# Altium schematic symbol library Schlib1.SchLib: 117 symbols (part 2 of 2)
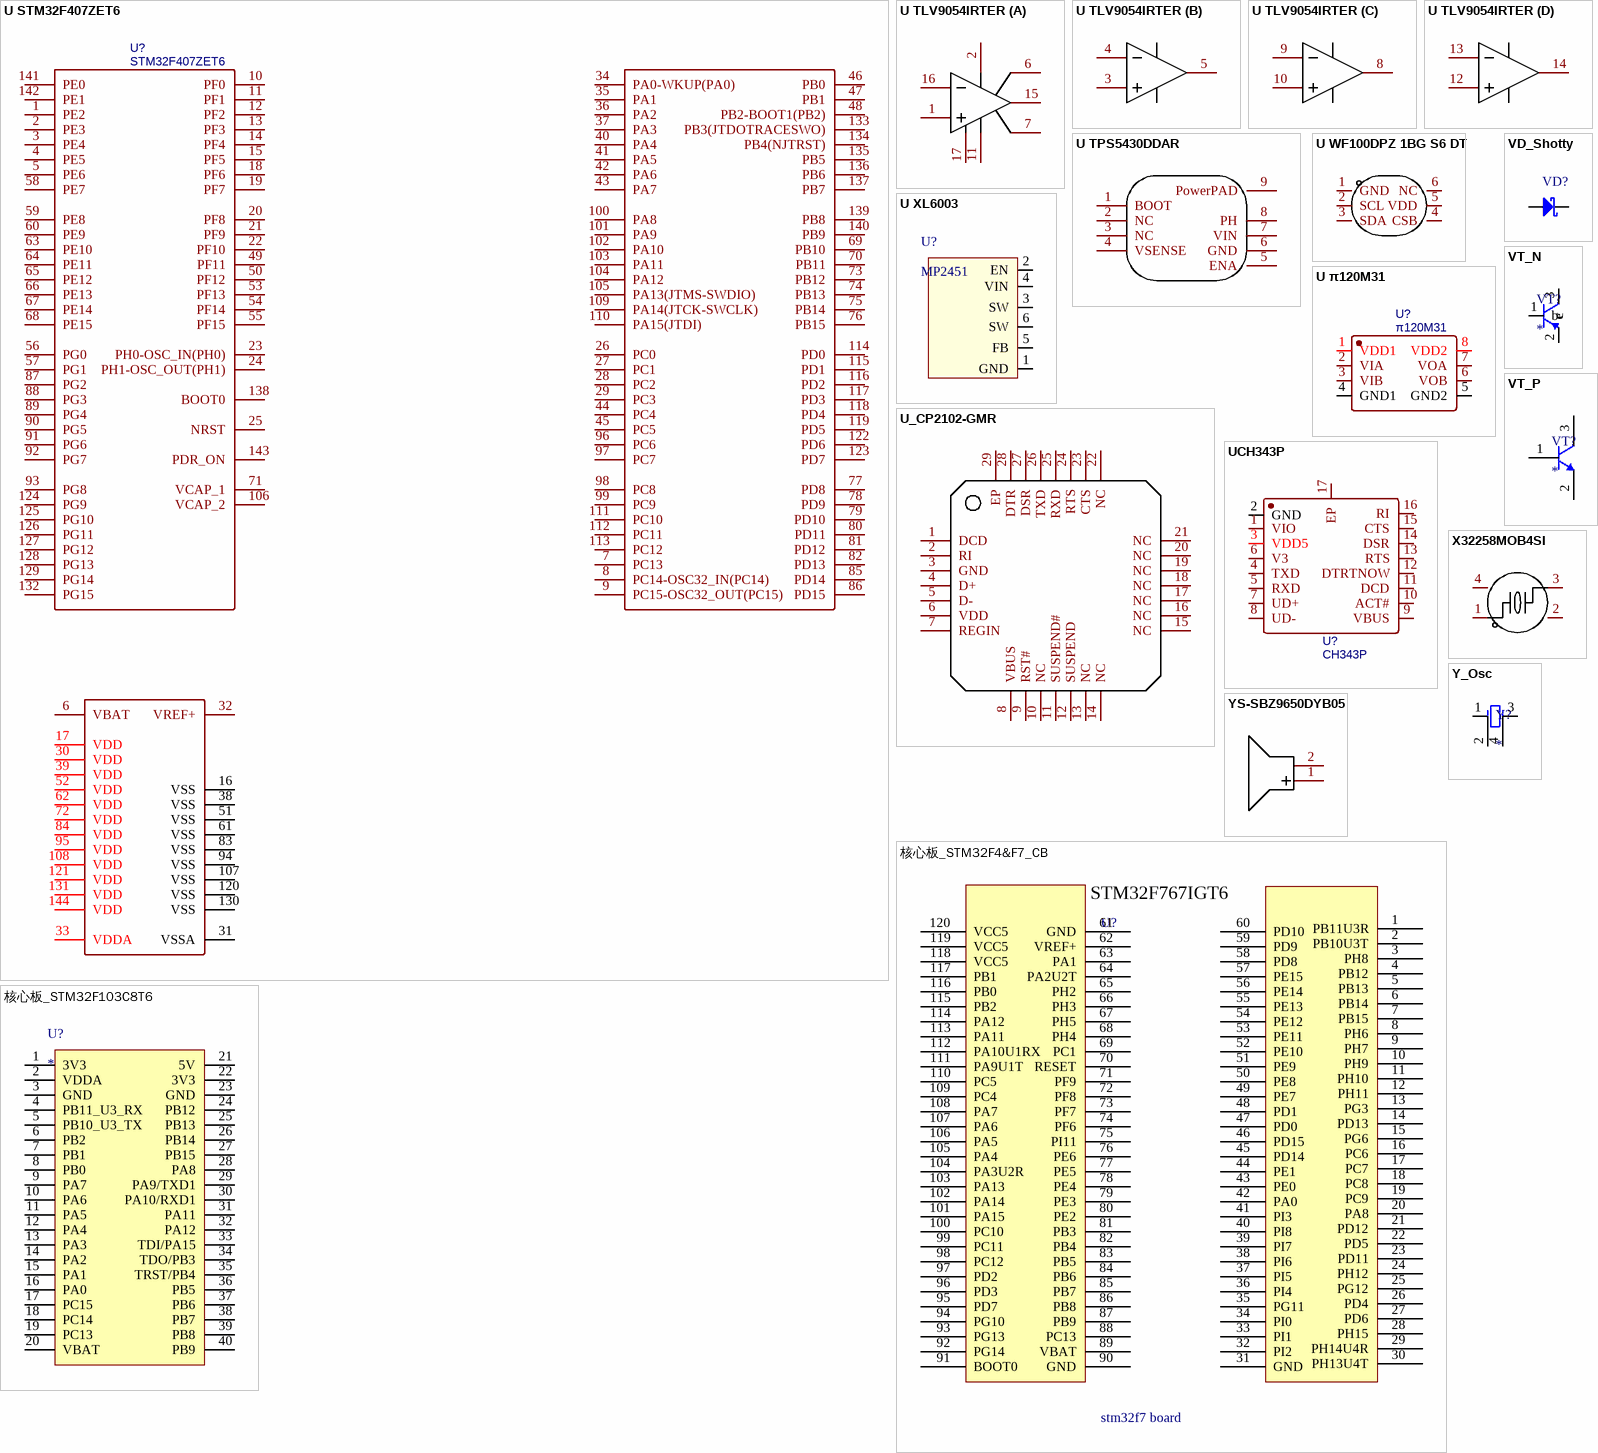
[diagram p5: symbols U STM32F407ZET6 to 核心板_STM32F103C8T6]

## 核心板_STM32F4&F7_CB
designator U?, comment stm32f7 board
footprint STM32F4&F7_CB
pins: 1 PB11U3R, 2 PB10U3T, 3 PH8, 4 PB12, 5 PB13, 6 PB14, 7 PB15, 8 PH6, 9 PH7, 10 PH9, 11 PH10, 12 PH11, 13 PG3, 14 PD13, 15 PG6, 16 PC6, 17 PC7, 18 PC8, 19 PC9, 20 PA8, 21 PD12, 22 PD5, 23 PD11, 24 PH12, 25 PG12, 26 PD4, 27 PD6, 28 PH15, 29 PH14U4R, 30 PH13U4T, 31 GND, 32 PI2, 33 PI1, 34 PI0, 35 PG11, 36 PI4, 37 PI5, 38 PI6, 39 PI7, 40 PI8, 41 PI3, 42 PA0, 43 PE0, 44 PE1, 45 PD14, 46 PD15, 47 PD0, 48 PD1, 49 PE7, 50 PE8, 51 PE9, 52 PE10, 53 PE11, 54 PE12, 55 PE13, 56 PE14, 57 PE15, 58 PD8, 59 PD9, 60 PD10, 61 GND, 62 VREF+, 63 PA1, 64 PA2U2T, 65 PH2, 66 PH3, 67 PH5, 68 PH4, 69 PC1, 70 RESET, 71 PF9, 72 PF8, 73 PF7, 74 PF6, 75 PI11, 76 PE6, 77 PE5, 78 PE4, 79 PE3, 80 PE2, 81 PB3, 82 PB4, 83 PB5, 84 PB6, 85 PB7, 86 PB8, 87 PB9, 88 PC13, 89 VBAT, 90 GND, 91 BOOT0, 92 PG14, 93 PG13, 94 PG10, 95 PD7, 96 PD3, 97 PD2, 98 PC12, 99 PC11, 100 PC10, 101 PA15, 102 PA14, 103 PA13, 104 PA3U2R, 105 PA4, 106 PA5, 107 PA6, 108 PA7, 109 PC4, 110 PC5, 111 PA9U1T, 112 PA10U1RX, 113 PA11, 114 PA12, 115 PB2, 116 PB0, 117 PB1, 118 VCC5, 119 VCC5, 120 VCC5
text: STM32F767IGT6

## 核心板_STM32F103C8T6
designator U?
telesky家的STM32F103C8T6
pins: 1 3V3, 2 VDDA, 3 GND, 4 PB11_U3_RX, 5 PB10_U3_TX, 6 PB2, 7 PB1, 8 PB0, 9 PA7, 10 PA6, 11 PA5, 12 PA4, 13 PA3, 14 PA2, 15 PA1, 16 PA0, 17 PC15, 18 PC14, 19 PC13, 20 VBAT, 21 5V, 22 3V3, 23 GND, 24 PB12, 25 PB13, 26 PB14, 27 PB15, 28 PA8, 29 PA9/TXD1, 30 PA10/RXD1, 31 PA11, 32 PA12, 33 TDI/PA15, 34 TDO/PB3, 35 TRST/PB4, 36 PB5, 37 PB6, 38 PB7, 39 PB8, 40 PB9

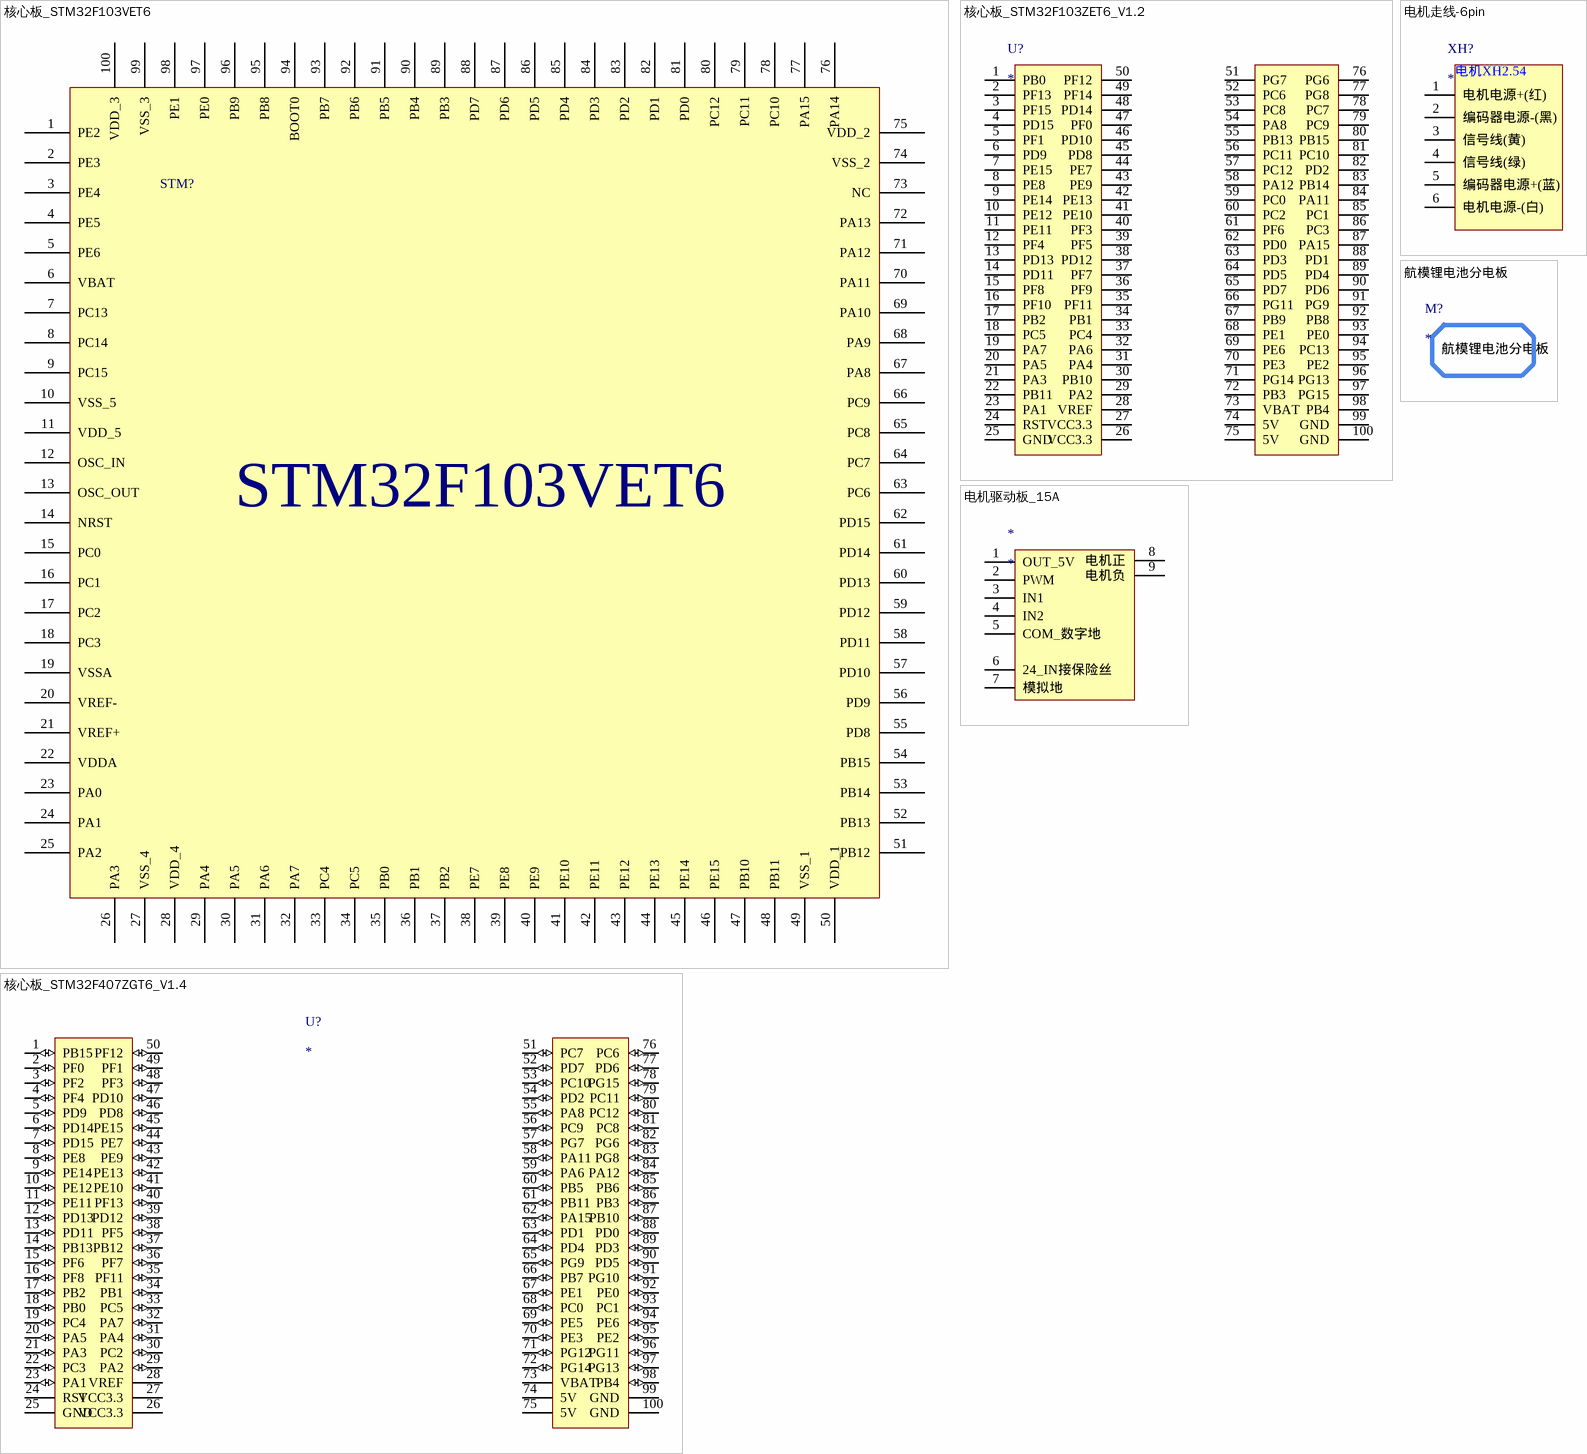
[diagram p4: symbols 核心板_STM32F103VET6 to 航模锂电池分电板]

## 核心板_STM32F103VET6
designator STM?, comment STM32F103VET6  (value not drawn)
芯片
footprint LQFP 100
pins: 1 PE2, 2 PE3, 3 PE4, 4 PE5, 5 PE6, 6 VBAT, 7 PC13, 8 PC14, 9 PC15, 10 VSS_5, 11 VDD_5, 12 OSC_IN, 13 OSC_OUT, 14 NRST, 15 PC0, 16 PC1, 17 PC2, 18 PC3, 19 VSSA, 20 VREF-, 21 VREF+, 22 VDDA, 23 PA0, 24 PA1, 25 PA2, 26 PA3, 27 VSS_4, 28 VDD_4, 29 PA4, 30 PA5, 31 PA6, 32 PA7, 33 PC4, 34 PC5, 35 PB0, 36 PB1, 37 PB2, 38 PE7, 39 PE8, 40 PE9, 41 PE10, 42 PE11, 43 PE12, 44 PE13, 45 PE14, 46 PE15, 47 PB10, 48 PB11, 49 VSS_1, 50 VDD_1, 51 PB12, 52 PB13, 53 PB14, 54 PB15, 55 PD8, 56 PD9, 57 PD10, 58 PD11, 59 PD12, 60 PD13, 61 PD14, 62 PD15, 63 PC6, 64 PC7, 65 PC8, 66 PC9, 67 PA8, 68 PA9, 69 PA10, 70 PA11, 71 PA12, 72 PA13, 73 NC, 74 VSS_2, 75 VDD_2, 76 PA14, 77 PA15, 78 PC10, 79 PC11, 80 PC12, 81 PD0, 82 PD1, 83 PD2, 84 PD3, 85 PD4, 86 PD5, 87 PD6, 88 PD7, 89 PB3, 90 PB4, 91 PB5, 92 PB6, 93 PB7, 94 BOOT0, 95 PB8, 96 PB9, 97 PE0, 98 PE1, 99 VSS_3, 100 VDD_3

## 核心板_STM32F103ZET6_V1.2
designator U?
正电原子 STM32F103zet6_V1.2
footprint 主控STM32F103ZET6
pins: 1 PB0, 2 PF13, 3 PF15, 4 PD15, 5 PF1, 6 PD9, 7 PE15, 8 PE8, 9 PE14, 10 PE12, 11 PE11, 12 PF4, 13 PD13, 14 PD11, 15 PF8, 16 PF10, 17 PB2, 18 PC5, 19 PA7, 20 PA5, 21 PA3, 22 PB11, 23 PA1, 24 RST, 25 GND, 26 VCC3.3, 27 VCC3.3, 28 VREF, 29 PA2, 30 PB10, 31 PA4, 32 PA6, 33 PC4, 34 PB1, 35 PF11, 36 PF9, 37 PF7, 38 PD12, 39 PF5, 40 PF3, 41 PE10, 42 PE13, 43 PE9, 44 PE7, 45 PD8, 46 PD10, 47 PF0, 48 PD14, 49 PF14, 50 PF12, 51 PG7, 52 PC6, 53 PC8, 54 PA8, 55 PB13, 56 PC11, 57 PC12, 58 PA12, 59 PC0, 60 PC2, 61 PF6, 62 PD0, 63 PD3, 64 PD5, 65 PD7, 66 PG11, 67 PB9, 68 PE1, 69 PE6, 70 PE3, 71 PG14, 72 PB3, 73 VBAT, 74 5V, 75 5V, 76 PG6, 77 PG8, 78 PC7, 79 PC9, 80 PB15, 81 PC10, 82 PD2, 83 PB14, 84 PA11, 85 PC1, 86 PC3, 87 PA15, 88 PD1, 89 PD4, 90 PD6, 91 PG9, 92 PB8, 93 PE0, 94 PC13, 95 PE2, 96 PG13, 97 PG15, 98 PB4, 99 GND, 100 GND

## 核心板_STM32F407ZGT6_V1.4
designator U?
模块
footprint 正点STM32F103ZET6 - v1.4 (V1.4)
pins: 1 PB15 (io), 2 PF0 (io), 3 PF2 (io), 4 PF4 (io), 5 PD9 (io), 6 PD14 (io), 7 PD15 (io), 8 PE8 (io), 9 PE14 (io), 10 PE12 (io), 11 PE11 (io), 12 PD13 (io), 13 PD11 (io), 14 PB13 (io), 15 PF6 (io), 16 PF8 (io), 17 PB2 (io), 18 PB0 (io), 19 PC4 (io), 20 PA5 (io), 21 PA3 (io), 22 PC3 (io), 23 PA1 (io), 24 RST, 25 GND, 26 VCC3.3, 27 VCC3.3, 28 VREF, 29 PA2 (io), 30 PC2 (io), 31 PA4 (io), 32 PA7 (io), 33 PC5 (io), 34 PB1 (io), 35 PF11 (io), 36 PF7 (io), 37 PB12 (io), 38 PF5 (io), 39 PD12 (io), 40 PF13 (io), 41 PE10 (io), 42 PE13 (io), 43 PE9 (io), 44 PE7 (io), 45 PE15 (io), 46 PD8 (io), 47 PD10 (io), 48 PF3 (io), 49 PF1 (io), 50 PF12 (io), 51 PC7 (io), 52 PD7 (io), 53 PC10 (io), 54 PD2 (io), 55 PA8 (io), 56 PC9 (io), 57 PG7 (io), 58 PA11 (io), 59 PA6 (io), 60 PB5 (io), 61 PB11 (io), 62 PA15 (io), 63 PD1 (io), 64 PD4 (io), 65 PG9 (io), 66 PB7 (io), 67 PE1 (io), 68 PC0 (io), 69 PE5 (io), 70 PE3 (io), 71 PG12 (io), 72 PG14 (io), 73 VBAT, 74 5V, 75 5V, 76 PC6 (io), 77 PD6 (io), 78 PG15 (io), 79 PC11 (io), 80 PC12 (io), 81 PC8 (io), 82 PG6 (io), 83 PG8 (io), 84 PA12 (io), 85 PB6 (io), 86 PB3 (io), 87 PB10 (io), 88 PD0 (io), 89 PD3 (io), 90 PD5 (io), 91 PG10 (io), 92 PE0 (io), 93 PC1 (io), 94 PE6 (io), 95 PE2 (io), 96 PG11 (io), 97 PG13 (io), 98 PB4 (io), 99 GND, 100 GND

## 电机走线-6pin
designator XH?
pins: 1 电机电源+(红), 2 编码器电源-(黑), 3 信号线(黄), 4 信号线(绿), 5 编码器电源+(蓝), 6 电机电源-(白)
text: 电机XH2.54

## 电机驱动板_15A
designator *
pins: 1 OUT_5V, 2 PWM, 3 IN1, 4 IN2, 5 COM_数字地, 6 24_IN接保险丝, 7 模拟地, 8 电机正, 9 电机负

## 航模锂电池分电板
designator M?
footprint Model Name (Footprint not found)